# Altium schematic symbol library ICs-LevelShifters.SchLib: 1 symbol
Pins are listed as number, name and electrical type; pins without a type are passive.

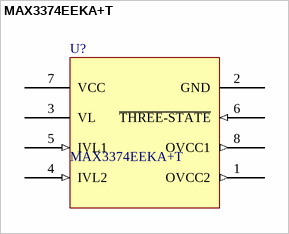
[diagram p0: symbol MAX3374EEKA+T]

## MAX3374EEKA+T
designator U?
Translation - Voltage Levels +/-15kV ESD-Protected, 1 uA, 16Mbps, Dual/Quad Low-Voltage Level Translators; Manufacturer: Maxim Integrated; PartNumber: MAX3374EEKA+T; Mounting Technology: Surface Mount; PackageReference: SOT23-8
footprint SOT-23-8 (SOT23, 8-Leads, Body 2.90x1.60mm, Pitch 0.65mm, IPC Medium Density)
pins: 1 OVCC2 (out), 2 GND (power), 3 VL (power), 4 IVL2 (in), 5 IVL1 (in), 6 ~{THREE-STATE} (in), 7 VCC (power), 8 OVCC1 (out)